# Altium footprint library IntegratedCircuites.PcbLib: 74 footprints (part 1 of 5)
Each footprint in its own frame and in the unit in brackets; x right, y up, seen from the top. Pads: shape width x height; smd on the part's side, far side on the other; paste and mask are expansions set on the pad; w line width, h text height; cw(c..) or ccw(c..) is an arc to the next point about the centre after c.
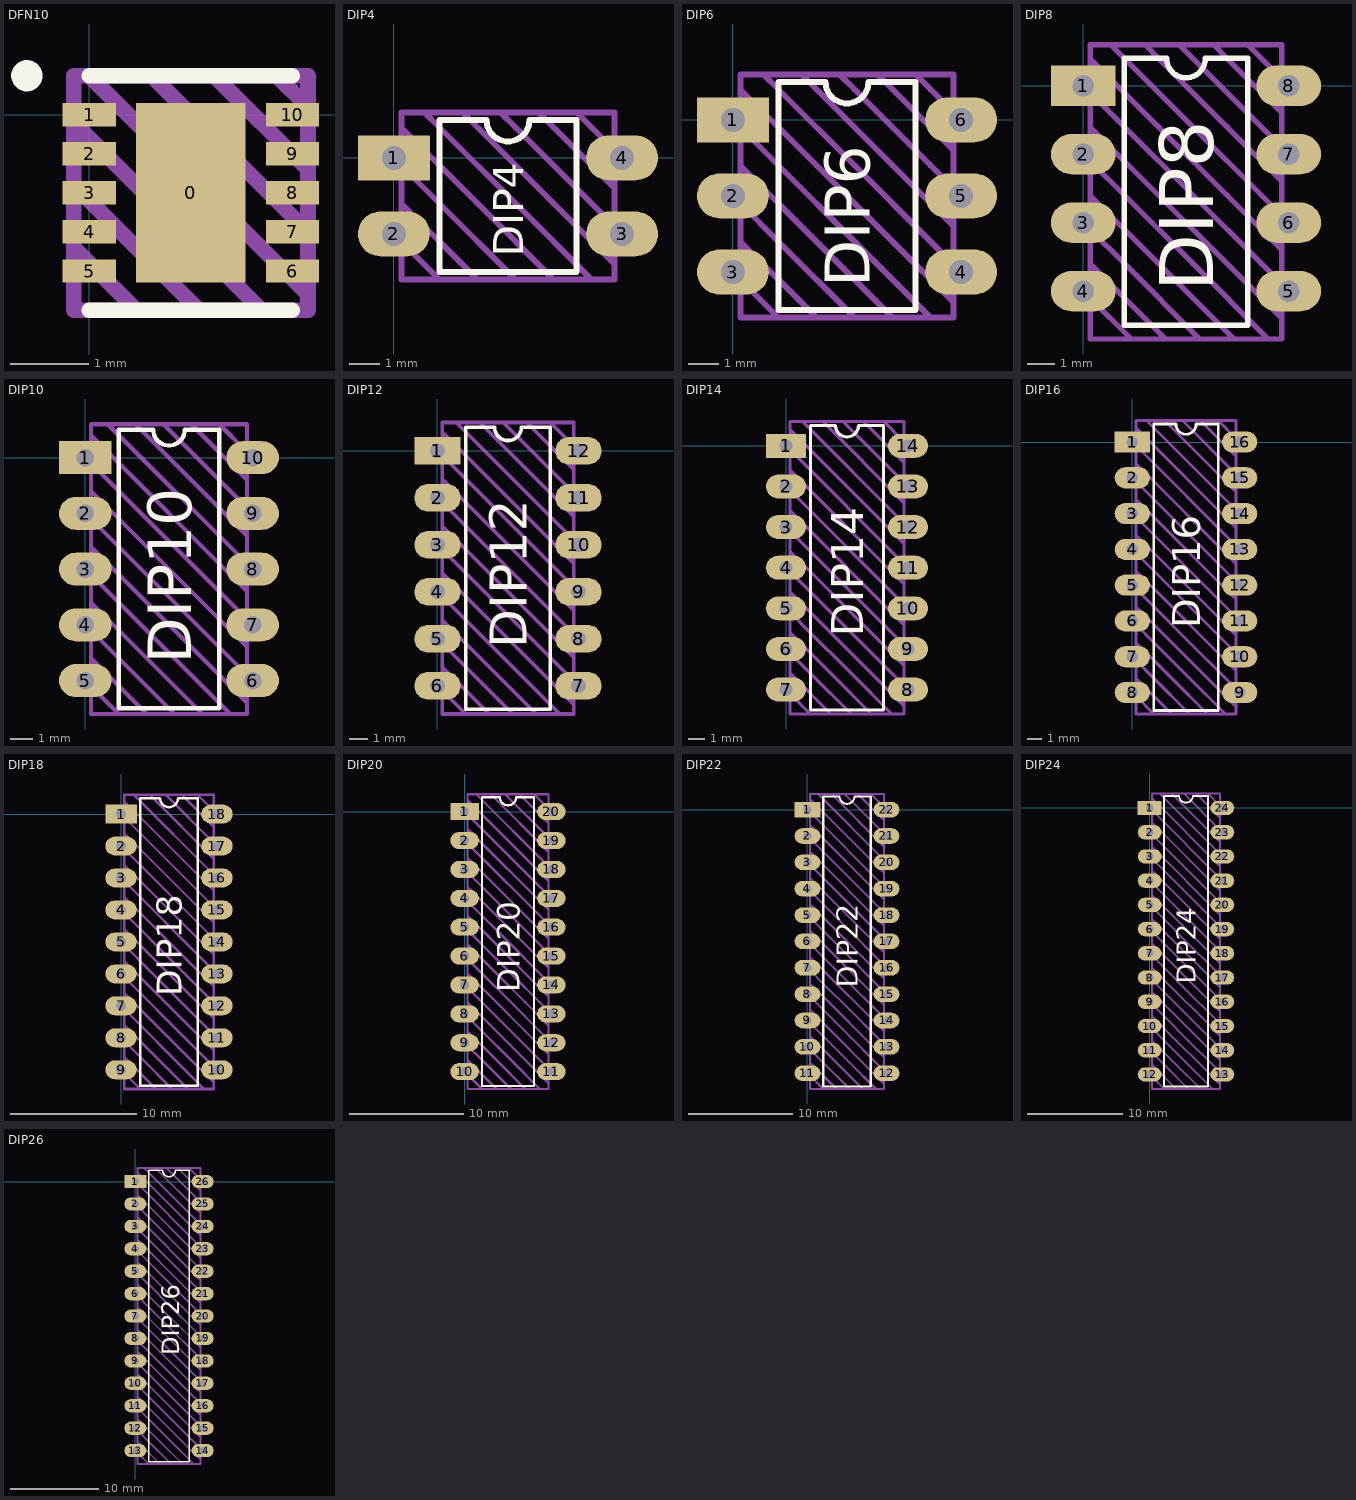
[diagram p0: the footprints below, top view; thin cyan lines are the x and y axes]

## DFN10 [mm]
pads (11):
  rect 1.4x2.3 smd: 0(1.3,-1)
  rect 0.68x0.3 smd: 1(0,0) 2(0,-0.5) 3(0,-1) 4(0,-1.5) 5(0,-2) 6(2.6,-2) 7(2.6,-1.5) 8(2.6,-1) 9(2.6,-0.5) 10(2.6,0)
Top Overlay:
  circle w0.2: c-0.8,0.5 r0.1
  lines w0.2: 0,-2.5 2.6,-2.5 ; 0,0.5 2.6,0.5
Top Draw:
  lines w0.2: -0.2,-1.7 0.6,-2.5 ; -0.2,-0.9 1.4,-2.5 ; -0.2,-0.1 2.2,-2.5 ; 0,0.5 2.8,-2.3 ; 0.8,0.5 2.8,-1.5 ; 1.6,0.5 2.8,-0.7 ; 2.4,0.5 2.8,0.1 ; -0.2,-2.5 2.8,-2.5 2.8,0.5 -0.2,0.5 -0.2,-2.5
Top Info:
  text "'.Comment'" at -0.824,-3.292 h0.5
3D body "PSON50P300X100_HS-11N.step": height 1, standoff 0, extent -0.201,-2.5 2.801,0.5

## DIP4 [mm]
pads (4):
  rect 2.4x1.5 hole 0.8: 1(0,0)
  oval 2.4x1.5 hole 0.8: 2(0,-2.54) 3(7.62,-2.54) 4(7.62,0)
Top Overlay:
  lines w0.2: 3.048,1.27 1.524,1.27 1.524,-3.81 6.096,-3.81 6.096,1.27 4.572,1.27 ; 3.092,1.27 ccw(c3.81,1.27) 4.528,1.27
  text "DIP4" at 4.318,-3.302 h1
Top Draw:
  lines w0.2: 0.254,-2.794 1.524,-4.064 ; 0.254,-1.524 2.794,-4.064 ; 0.254,-0.254 1.524,-1.524 4.064,-4.064 ; 0.254,1.016 2.794,-1.524 5.334,-4.064 ; 3.556,1.524 4.064,1.016 6.604,-1.524 7.366,-2.286 ; 4.826,1.524 5.334,1.016 7.366,-1.016 ; 6.096,1.524 6.604,1.016 7.366,0.254 ; 6.604,-4.064 4.064,-1.524 1.524,1.016 1.016,1.524 2.286,1.524 2.794,1.016 5.334,-1.524 7.366,-3.556 ; 0.254,-4.064 7.366,-4.064 7.366,1.524 0.254,1.524 0.254,-4.064
Top Info:
  text "'.Comment'" at -0.381,-5.461 h1
3D body: height 0.38, standoff -3, extent 7.493,-0.254 7.747,0.254
3D body: height 2.09, standoff 0.31, extent 7.112,-0.5 7.747,0.5
3D body: height 0.38, standoff -3, extent 7.493,-2.794 7.747,-2.286
3D body: height 2.09, standoff 0.31, extent 7.112,-3.04 7.747,-2.04
3D body: height 0.38, standoff -3, extent -0.127,-2.794 0.127,-2.286
3D body: height 2.09, standoff 0.31, extent -0.127,-3.04 0.508,-2.04
3D body: height 0.38, standoff -3, extent -0.127,-0.254 0.127,0.254
3D body: height 2.09, standoff 0.31, extent -0.127,-0.5 0.508,0.5
3D body: height 3, standoff 2, extent 0.508,-3.81 7.112,1.27
3D body: height 2, standoff 0.25, extent 0.508,-3.81 7.112,1.27

## DIP6 [mm]
pads (6):
  rect 2.4x1.5 hole 0.8: 1(0,0)
  oval 2.4x1.5 hole 0.8: 2(0,-2.54) 3(0,-5.08) 4(7.62,-5.08) 5(7.62,-2.54) 6(7.62,0)
Top Overlay:
  lines w0.2: 3.048,1.27 1.524,1.27 1.524,-6.35 6.096,-6.35 6.096,1.27 4.572,1.27 ; 3.092,1.27 ccw(c3.81,1.27) 4.528,1.27
  text "DIP6" at 4.572,-5.588 h1.5
Top Draw:
  lines w0.2: 0.254,-5.334 1.524,-6.604 ; 0.254,-4.064 2.794,-6.604 ; 0.254,-2.794 1.524,-4.064 4.064,-6.604 ; 0.254,-1.524 2.794,-4.064 5.334,-6.604 ; 0.254,-0.254 1.524,-1.524 4.064,-4.064 6.604,-6.604 ; 0.254,1.016 2.794,-1.524 5.334,-4.064 7.366,-6.096 ; 3.556,1.524 4.064,1.016 6.604,-1.524 7.366,-2.286 ; 4.826,1.524 5.334,1.016 7.366,-1.016 ; 6.096,1.524 6.604,1.016 7.366,0.254 ; 7.366,-4.826 6.604,-4.064 4.064,-1.524 1.524,1.016 1.016,1.524 2.286,1.524 2.794,1.016 5.334,-1.524 7.366,-3.556 ; 0.254,-6.604 0.254,1.524 7.366,1.524 7.366,-6.604 0.254,-6.604
Top Info:
  text "'.Comment'" at -0.381,-8.001 h1
3D body: height 2, standoff 0.25, extent 0.508,-6.35 7.112,1.27
3D body: height 3, standoff 2, extent 0.508,-6.35 7.112,1.27
3D body: height 2.09, standoff 0.31, extent -0.127,-0.5 0.508,0.5
3D body: height 0.38, standoff -3, extent -0.127,-0.254 0.127,0.254
3D body: height 2.09, standoff 0.31, extent -0.127,-3.04 0.508,-2.04
3D body: height 0.38, standoff -3, extent -0.127,-2.794 0.127,-2.286
3D body: height 2.09, standoff 0.31, extent -0.127,-5.58 0.508,-4.58
3D body: height 0.38, standoff -3, extent -0.127,-5.334 0.127,-4.826
3D body: height 2.09, standoff 0.31, extent 7.112,-5.58 7.747,-4.58
3D body: height 0.38, standoff -3, extent 7.493,-5.334 7.747,-4.826
3D body: height 2.09, standoff 0.31, extent 7.112,-3.04 7.747,-2.04
3D body: height 0.38, standoff -3, extent 7.493,-2.794 7.747,-2.286
3D body: height 2.09, standoff 0.31, extent 7.112,-0.5 7.747,0.5
3D body: height 0.38, standoff -3, extent 7.493,-0.254 7.747,0.254

## DIP8 [mm]
pads (8):
  rect 2.4x1.5 hole 0.8: 1(0,0)
  oval 2.4x1.5 hole 0.8: 2(0,-2.54) 3(0,-5.08) 4(0,-7.62) 5(7.62,-7.62) 6(7.62,-5.08) 7(7.62,-2.54) 8(7.62,0)
Top Overlay:
  lines w0.2: 3.048,1.016 1.524,1.016 1.524,-8.89 6.096,-8.89 6.096,1.016 4.572,1.016 ; 3.092,1.016 ccw(c3.81,1.016) 4.528,1.016
  text "DIP8" at 4.826,-7.62 h2
Top Draw:
  lines w0.2: 0.254,-7.874 1.778,-9.398 ; 0.254,-6.604 3.048,-9.398 ; 0.254,-5.334 1.524,-6.604 4.318,-9.398 ; 0.254,-4.064 2.794,-6.604 5.588,-9.398 ; 0.254,-2.794 1.524,-4.064 4.064,-6.604 6.858,-9.398 ; 0.254,-1.524 2.794,-4.064 5.334,-6.604 7.366,-8.636 ; 0.254,-0.254 1.524,-1.524 4.064,-4.064 6.604,-6.604 7.366,-7.366 ; 0.254,1.016 2.794,-1.524 5.334,-4.064 7.366,-6.096 ; 1.016,1.524 1.524,1.016 4.064,-1.524 6.604,-4.064 7.366,-4.826 ; 2.286,1.524 2.794,1.016 5.334,-1.524 7.366,-3.556 ; 3.556,1.524 4.064,1.016 6.604,-1.524 7.366,-2.286 ; 4.826,1.524 5.334,1.016 7.366,-1.016 ; 6.096,1.524 6.604,1.016 7.366,0.254 ; 0.254,-9.398 7.366,-9.398 7.366,1.524 0.254,1.524 0.254,-9.398
Top Info:
  text "'.Comment'" at -0.381,-10.795 h1
3D body: height 2.09, standoff 0.31, extent -0.127,-5.58 0.508,-4.58
3D body: height 0.38, standoff -3, extent -0.127,-5.334 0.127,-4.826
3D body: height 2.09, standoff 0.31, extent -0.127,-8.12 0.508,-7.12
3D body: height 0.38, standoff -3, extent -0.127,-7.874 0.127,-7.366
3D body: height 2.09, standoff 0.31, extent 7.112,-8.12 7.747,-7.12
3D body: height 0.38, standoff -3, extent 7.493,-7.874 7.747,-7.366
3D body: height 2.09, standoff 0.31, extent 7.112,-5.58 7.747,-4.58
3D body: height 0.38, standoff -3, extent 7.493,-5.334 7.747,-4.826
3D body: height 2.09, standoff 0.31, extent -0.127,-0.5 0.508,0.5
3D body: height 0.38, standoff -3, extent -0.127,-0.254 0.127,0.254
3D body: height 2.09, standoff 0.31, extent -0.127,-3.04 0.508,-2.04
3D body: height 0.38, standoff -3, extent -0.127,-2.794 0.127,-2.286
3D body: height 2.09, standoff 0.31, extent 7.112,-3.04 7.747,-2.04
3D body: height 0.38, standoff -3, extent 7.493,-2.794 7.747,-2.286
3D body: height 2.09, standoff 0.31, extent 7.112,-0.5 7.747,0.5
3D body: height 0.38, standoff -3, extent 7.493,-0.254 7.747,0.254
3D body: height 3, standoff 2, extent 0.508,-8.89 7.112,1.27
3D body: height 2.03, standoff 0.25, extent 0.508,-8.89 7.112,1.27

## DIP10 [mm]
pads (10):
  rect 2.4x1.5 hole 0.8: 1(0,0)
  oval 2.4x1.5 hole 0.8: 2(0,-2.54) 3(0,-5.08) 4(0,-7.62) 5(0,-10.16) 6(7.62,-10.16) 7(7.62,-7.62) 8(7.62,-5.08) 9(7.62,-2.54) 10(7.62,0)
Top Overlay:
  lines w0.2: 3.048,1.27 1.524,1.27 1.524,-11.43 6.096,-11.43 6.096,1.27 4.572,1.27 ; 3.092,1.27 ccw(c3.81,1.27) 4.528,1.27
  text "DIP10" at 4.826,-9.398 h2
Top Draw:
  lines w0.2: 0.254,-10.414 1.524,-11.684 ; 0.254,-9.144 2.794,-11.684 ; 0.254,-7.874 4.064,-11.684 ; 0.254,-6.604 5.334,-11.684 ; 0.254,-5.334 6.604,-11.684 ; 0.254,-4.064 7.366,-11.176 ; 0.254,-2.794 7.366,-9.906 ; 0.254,-1.524 7.366,-8.636 7.366,-7.366 0.254,-0.254 0.254,1.016 7.366,-6.096 7.366,-4.826 1.016,1.524 2.286,1.524 7.366,-3.556 7.366,-2.286 3.556,1.524 4.826,1.524 7.366,-1.016 7.366,0.254 6.096,1.524 ; 0.254,-11.684 0.254,1.524 7.366,1.524 7.366,-11.684 0.254,-11.684
Top Info:
  text "'.Comment'" at -0.381,-13.081 h1
3D body: height 2.03, standoff 0.25, extent 0.508,-11.43 7.112,1.27
3D body: height 3, standoff 2, extent 0.508,-11.43 7.112,1.27
3D body: height 0.38, standoff -3, extent 7.493,-0.254 7.747,0.254
3D body: height 2.09, standoff 0.31, extent 7.112,-0.5 7.747,0.5
3D body: height 0.38, standoff -3, extent 7.493,-2.794 7.747,-2.286
3D body: height 2.09, standoff 0.31, extent 7.112,-3.04 7.747,-2.04
3D body: height 0.38, standoff -3, extent -0.127,-2.794 0.127,-2.286
3D body: height 2.09, standoff 0.31, extent -0.127,-3.04 0.508,-2.04
3D body: height 0.38, standoff -3, extent -0.127,-0.254 0.127,0.254
3D body: height 2.09, standoff 0.31, extent -0.127,-0.5 0.508,0.5
3D body: height 0.38, standoff -3, extent 7.493,-5.334 7.747,-4.826
3D body: height 2.09, standoff 0.31, extent 7.112,-5.58 7.747,-4.58
3D body: height 0.38, standoff -3, extent 7.493,-7.874 7.747,-7.366
3D body: height 2.09, standoff 0.31, extent 7.112,-8.12 7.747,-7.12
3D body: height 0.38, standoff -3, extent -0.127,-7.874 0.127,-7.366
3D body: height 2.09, standoff 0.31, extent -0.127,-8.12 0.508,-7.12
3D body: height 0.38, standoff -3, extent -0.127,-5.334 0.127,-4.826
3D body: height 2.09, standoff 0.31, extent -0.127,-5.58 0.508,-4.58
3D body: height 0.38, standoff -3, extent 7.493,-10.414 7.747,-9.906
3D body: height 2.09, standoff 0.31, extent 7.112,-10.66 7.747,-9.66
3D body: height 0.38, standoff -3, extent -0.127,-10.414 0.127,-9.906
3D body: height 2.09, standoff 0.31, extent -0.127,-10.66 0.508,-9.66

## DIP12 [mm]
pads (12):
  rect 2.5x1.5 hole 0.8: 1(0,0)
  oval 2.5x1.5 hole 0.8: 2(0,-2.54) 3(0,-5.08) 4(0,-7.62) 5(0,-10.16) 6(0,-12.7) 7(7.62,-12.7) 8(7.62,-10.16) 9(7.62,-7.62) 10(7.62,-5.08) 11(7.62,-2.54) 12(7.62,0)
Top Overlay:
  lines w0.2: 3.048,1.27 1.524,1.27 1.524,-13.97 6.096,-13.97 6.096,1.27 4.572,1.27 ; 3.092,1.27 ccw(c3.81,1.27) 4.528,1.27
  text "DIP12" at 4.826,-10.668 h2
Top Draw:
  lines w0.2: 0.254,-12.954 1.524,-14.224 ; 0.254,-11.684 2.794,-14.224 4.064,-14.224 ; 0.254,-10.414 1.524,-11.684 ; 0.254,-9.144 2.794,-11.684 ; 0.254,-7.874 4.064,-11.684 6.604,-14.224 5.334,-14.224 ; 0.254,-6.604 5.334,-11.684 7.366,-13.716 ; 0.254,-5.334 6.604,-11.684 7.366,-12.446 ; 0.254,-4.064 7.366,-11.176 ; 0.254,-2.794 7.366,-9.906 ; 0.254,-1.524 7.366,-8.636 ; 0.254,-0.254 7.366,-7.366 ; 0.254,1.016 7.366,-6.096 ; 1.016,1.524 7.366,-4.826 ; 2.286,1.524 7.366,-3.556 ; 3.556,1.524 7.366,-2.286 ; 4.826,1.524 7.366,-1.016 ; 6.096,1.524 7.366,0.254 ; 2.794,-11.684 5.334,-14.224 ; 2.794,-11.684 5.334,-14.224 ; 4.064,-14.224 5.334,-14.224 ; 4.064,-14.224 1.27,-11.43 4.064,-14.224 ; 0.254,-14.224 0.254,1.524 7.366,1.524 7.366,-14.224 0.254,-14.224
Top Info:
  text "'.Comment'" at -0.381,-15.621 h1
3D body: height 2.03, standoff 0.25, extent 0.508,-13.97 7.112,1.27
3D body: height 3, standoff 2, extent 0.508,-13.97 7.112,1.27
3D body: height 0.38, standoff -3, extent 7.493,-0.254 7.747,0.254
3D body: height 2.09, standoff 0.31, extent 7.112,-0.5 7.747,0.5
3D body: height 0.38, standoff -3, extent 7.493,-2.794 7.747,-2.286
3D body: height 2.09, standoff 0.31, extent 7.112,-3.04 7.747,-2.04
3D body: height 0.38, standoff -3, extent -0.127,-2.794 0.127,-2.286
3D body: height 2.09, standoff 0.31, extent -0.127,-3.04 0.508,-2.04
3D body: height 0.38, standoff -3, extent -0.127,-0.254 0.127,0.254
3D body: height 2.09, standoff 0.31, extent -0.127,-0.5 0.508,0.5
3D body: height 0.38, standoff -3, extent 7.493,-5.334 7.747,-4.826
3D body: height 2.09, standoff 0.31, extent 7.112,-5.58 7.747,-4.58
3D body: height 0.38, standoff -3, extent 7.493,-7.874 7.747,-7.366
3D body: height 2.09, standoff 0.31, extent 7.112,-8.12 7.747,-7.12
3D body: height 0.38, standoff -3, extent -0.127,-7.874 0.127,-7.366
3D body: height 2.09, standoff 0.31, extent -0.127,-8.12 0.508,-7.12
3D body: height 0.38, standoff -3, extent -0.127,-5.334 0.127,-4.826
3D body: height 2.09, standoff 0.31, extent -0.127,-5.58 0.508,-4.58
3D body: height 0.38, standoff -3, extent 7.493,-10.414 7.747,-9.906
3D body: height 2.09, standoff 0.31, extent 7.112,-10.66 7.747,-9.66
3D body: height 0.38, standoff -3, extent 7.493,-12.954 7.747,-12.446
3D body: height 2.09, standoff 0.31, extent 7.112,-13.2 7.747,-12.2
3D body: height 0.38, standoff -3, extent -0.127,-12.954 0.127,-12.446
3D body: height 2.09, standoff 0.31, extent -0.127,-13.2 0.508,-12.2
3D body: height 0.38, standoff -3, extent -0.127,-10.414 0.127,-9.906
3D body: height 2.09, standoff 0.31, extent -0.127,-10.66 0.508,-9.66

## DIP14 [mm]
pads (14):
  rect 2.5x1.5 hole 0.8: 1(0,0)
  oval 2.5x1.5 hole 0.8: 2(0,-2.54) 3(0,-5.08) 4(0,-7.62) 5(0,-10.16) 6(0,-12.7) 7(0,-15.24) 8(7.62,-15.24) 9(7.62,-12.7) 10(7.62,-10.16) 11(7.62,-7.62) 12(7.62,-5.08) 13(7.62,-2.54) 14(7.62,0)
Top Overlay:
  lines w0.2: 3.048,1.27 1.524,1.27 1.524,-16.51 6.096,-16.51 6.096,1.27 4.572,1.27 ; 3.092,1.27 ccw(c3.81,1.27) 4.528,1.27
  text "DIP14" at 4.826,-11.938 h2
Top Draw:
  lines w0.2: 0.254,-15.494 1.524,-16.764 ; 0.254,-14.224 2.794,-16.764 ; 0.254,-12.954 1.524,-14.224 4.064,-16.764 ; 0.254,-11.684 2.794,-14.224 5.334,-16.764 ; 0.254,-10.414 1.524,-11.684 ; 0.254,-9.144 2.794,-11.684 ; 0.254,-7.874 4.064,-11.684 6.604,-14.224 7.366,-14.986 ; 0.254,-6.604 5.334,-11.684 7.366,-13.716 ; 0.254,-5.334 6.604,-11.684 7.366,-12.446 ; 0.254,-4.064 7.366,-11.176 ; 0.254,-2.794 7.366,-9.906 ; 0.254,-1.524 7.366,-8.636 ; 0.254,-0.254 7.366,-7.366 ; 0.254,1.016 7.366,-6.096 ; 1.016,1.524 7.366,-4.826 ; 2.286,1.524 7.366,-3.556 ; 3.556,1.524 7.366,-2.286 ; 4.826,1.524 7.366,-1.016 ; 6.096,1.524 7.366,0.254 ; 6.604,-16.764 4.064,-14.224 ; 7.366,-16.256 5.334,-14.224 ; 2.794,-11.684 5.334,-14.224 ; 2.794,-11.684 5.334,-14.224 ; 4.064,-14.224 1.27,-11.43 4.064,-14.224 ; 0.254,-16.764 7.366,-16.764 7.366,1.524 0.254,1.524 0.254,-16.764
Top Info:
  text "'.Comment'" at -0.381,-18.161 h1
3D body: height 2.09, standoff 0.31, extent -0.127,-15.74 0.508,-14.74
3D body: height 0.38, standoff -3, extent -0.127,-15.494 0.127,-14.986
3D body: height 2.09, standoff 0.31, extent 7.112,-15.74 7.747,-14.74
3D body: height 0.38, standoff -3, extent 7.493,-15.494 7.747,-14.986
3D body: height 2.09, standoff 0.31, extent -0.127,-10.66 0.508,-9.66
3D body: height 0.38, standoff -3, extent -0.127,-10.414 0.127,-9.906
3D body: height 2.09, standoff 0.31, extent -0.127,-13.2 0.508,-12.2
3D body: height 0.38, standoff -3, extent -0.127,-12.954 0.127,-12.446
3D body: height 2.09, standoff 0.31, extent 7.112,-13.2 7.747,-12.2
3D body: height 0.38, standoff -3, extent 7.493,-12.954 7.747,-12.446
3D body: height 2.09, standoff 0.31, extent 7.112,-10.66 7.747,-9.66
3D body: height 0.38, standoff -3, extent 7.493,-10.414 7.747,-9.906
3D body: height 2.09, standoff 0.31, extent -0.127,-5.58 0.508,-4.58
3D body: height 0.38, standoff -3, extent -0.127,-5.334 0.127,-4.826
3D body: height 2.09, standoff 0.31, extent -0.127,-8.12 0.508,-7.12
3D body: height 0.38, standoff -3, extent -0.127,-7.874 0.127,-7.366
3D body: height 2.09, standoff 0.31, extent 7.112,-8.12 7.747,-7.12
3D body: height 0.38, standoff -3, extent 7.493,-7.874 7.747,-7.366
3D body: height 2.09, standoff 0.31, extent 7.112,-5.58 7.747,-4.58
3D body: height 0.38, standoff -3, extent 7.493,-5.334 7.747,-4.826
3D body: height 2.09, standoff 0.31, extent -0.127,-0.5 0.508,0.5
3D body: height 0.38, standoff -3, extent -0.127,-0.254 0.127,0.254
3D body: height 2.09, standoff 0.31, extent -0.127,-3.04 0.508,-2.04
3D body: height 0.38, standoff -3, extent -0.127,-2.794 0.127,-2.286
3D body: height 2.09, standoff 0.31, extent 7.112,-3.04 7.747,-2.04
3D body: height 0.38, standoff -3, extent 7.493,-2.794 7.747,-2.286
3D body: height 2.09, standoff 0.31, extent 7.112,-0.5 7.747,0.5
3D body: height 0.38, standoff -3, extent 7.493,-0.254 7.747,0.254
3D body: height 3, standoff 2, extent 0.508,-16.51 7.112,1.27
3D body: height 2.03, standoff 0.25, extent 0.508,-16.51 7.112,1.27

## DIP16 [mm]
pads (16):
  rect 2.5x1.5 hole 0.8: 1(0,0)
  oval 2.5x1.5 hole 0.8: 2(0,-2.54) 3(0,-5.08) 4(0,-7.62) 5(0,-10.16) 6(0,-12.7) 7(0,-15.24) 8(0,-17.78) 9(7.62,-17.78) 10(7.62,-15.24) 11(7.62,-12.7) 12(7.62,-10.16) 13(7.62,-7.62) 14(7.62,-5.08) 15(7.62,-2.54) 16(7.62,0)
Top Overlay:
  lines w0.2: 3.048,1.27 1.524,1.27 1.524,-19.05 6.096,-19.05 6.096,1.27 5.588,1.27 4.572,1.27 ; 3.092,1.27 ccw(c3.81,1.27) 4.528,1.27
  text "DIP16" at 4.826,-13.208 h2
Top Draw:
  lines w0.2: 0.254,-18.034 1.524,-19.304 ; 0.254,-16.764 2.794,-19.304 ; 0.254,-15.494 1.524,-16.764 4.064,-19.304 ; 0.254,-14.224 2.794,-16.764 5.334,-19.304 ; 0.254,-12.954 1.524,-14.224 4.064,-16.764 6.604,-19.304 ; 0.254,-11.684 2.794,-14.224 5.334,-16.764 7.366,-18.796 ; 0.254,-10.414 1.524,-11.684 ; 0.254,-9.144 2.794,-11.684 ; 0.254,-7.874 4.064,-11.684 6.604,-14.224 7.366,-14.986 ; 0.254,-6.604 5.334,-11.684 7.366,-13.716 ; 0.254,-5.334 6.604,-11.684 7.366,-12.446 ; 0.254,-4.064 7.366,-11.176 ; 0.254,-2.794 7.366,-9.906 ; 0.254,-1.524 7.366,-8.636 ; 0.254,-0.254 7.366,-7.366 ; 0.254,1.016 7.366,-6.096 ; 1.016,1.524 7.366,-4.826 ; 2.286,1.524 7.366,-3.556 ; 3.556,1.524 7.366,-2.286 ; 4.826,1.524 7.366,-1.016 ; 6.096,1.524 7.366,0.254 ; 7.366,-17.526 6.604,-16.764 4.064,-14.224 ; 7.366,-16.256 5.334,-14.224 ; 2.794,-11.684 5.334,-14.224 ; 2.794,-11.684 5.334,-14.224 ; 4.064,-14.224 1.27,-11.43 4.064,-14.224 ; 0.254,-19.304 0.254,1.524 7.366,1.524 7.366,-19.304 0.254,-19.304
Top Info:
  text "'.Comment'" at -0.381,-20.701 h1
3D body: height 3, standoff 2, extent 0.508,-19.05 7.112,1.27
3D body: height 2.03, standoff 0.25, extent 0.508,-19.05 7.112,1.27
3D body: height 0.38, standoff -3, extent 7.493,-0.254 7.747,0.254
3D body: height 2.09, standoff 0.31, extent 7.112,-0.5 7.747,0.5
3D body: height 0.38, standoff -3, extent 7.493,-2.794 7.747,-2.286
3D body: height 2.09, standoff 0.31, extent 7.112,-3.04 7.747,-2.04
3D body: height 0.38, standoff -3, extent -0.127,-2.794 0.127,-2.286
3D body: height 2.09, standoff 0.31, extent -0.127,-3.04 0.508,-2.04
3D body: height 0.38, standoff -3, extent -0.127,-0.254 0.127,0.254
3D body: height 2.09, standoff 0.31, extent -0.127,-0.5 0.508,0.5
3D body: height 0.38, standoff -3, extent 7.493,-5.334 7.747,-4.826
3D body: height 2.09, standoff 0.31, extent 7.112,-5.58 7.747,-4.58
3D body: height 0.38, standoff -3, extent 7.493,-7.874 7.747,-7.366
3D body: height 2.09, standoff 0.31, extent 7.112,-8.12 7.747,-7.12
3D body: height 0.38, standoff -3, extent -0.127,-7.874 0.127,-7.366
3D body: height 2.09, standoff 0.31, extent -0.127,-8.12 0.508,-7.12
3D body: height 0.38, standoff -3, extent -0.127,-5.334 0.127,-4.826
3D body: height 2.09, standoff 0.31, extent -0.127,-5.58 0.508,-4.58
3D body: height 0.38, standoff -3, extent 7.493,-10.414 7.747,-9.906
3D body: height 2.09, standoff 0.31, extent 7.112,-10.66 7.747,-9.66
3D body: height 0.38, standoff -3, extent 7.493,-12.954 7.747,-12.446
3D body: height 2.09, standoff 0.31, extent 7.112,-13.2 7.747,-12.2
3D body: height 0.38, standoff -3, extent -0.127,-12.954 0.127,-12.446
3D body: height 2.09, standoff 0.31, extent -0.127,-13.2 0.508,-12.2
3D body: height 0.38, standoff -3, extent -0.127,-10.414 0.127,-9.906
3D body: height 2.09, standoff 0.31, extent -0.127,-10.66 0.508,-9.66
3D body: height 0.38, standoff -3, extent 7.493,-15.494 7.747,-14.986
3D body: height 2.09, standoff 0.31, extent 7.112,-15.74 7.747,-14.74
3D body: height 0.38, standoff -3, extent 7.493,-18.034 7.747,-17.526
3D body: height 2.09, standoff 0.31, extent 7.112,-18.28 7.747,-17.28
3D body: height 0.38, standoff -3, extent -0.127,-18.034 0.127,-17.526
3D body: height 2.09, standoff 0.31, extent -0.127,-18.28 0.508,-17.28
3D body: height 0.38, standoff -3, extent -0.127,-15.494 0.127,-14.986
3D body: height 2.09, standoff 0.31, extent -0.127,-15.74 0.508,-14.74

## DIP18 [mm]
pads (18):
  rect 2.5x1.5 hole 0.8: 1(0,0)
  oval 2.5x1.5 hole 0.8: 2(0,-2.54) 3(0,-5.08) 4(0,-7.62) 5(0,-10.16) 6(0,-12.7) 7(0,-15.24) 8(0,-17.78) 9(0,-20.32) 10(7.62,-20.32) 11(7.62,-17.78) 12(7.62,-15.24) 13(7.62,-12.7) 14(7.62,-10.16) 15(7.62,-7.62) 16(7.62,-5.08) 17(7.62,-2.54) 18(7.62,0)
Top Overlay:
  lines w0.2: 3.048,1.27 1.524,1.27 1.524,-21.59 6.096,-21.59 6.096,1.27 4.572,1.27 ; 3.092,1.27 ccw(c3.81,1.27) 4.528,1.27
  text "DIP18" at 4.826,-14.478 h2
Top Draw:
  lines w0.2: 0.254,-20.574 1.524,-21.844 ; 0.254,-19.304 2.794,-21.844 ; 0.254,-18.034 1.524,-19.304 4.064,-21.844 ; 0.254,-16.764 2.794,-19.304 5.334,-21.844 ; 0.254,-15.494 1.524,-16.764 4.064,-19.304 6.604,-21.844 ; 0.254,-14.224 2.794,-16.764 5.334,-19.304 7.366,-21.336 ; 0.254,-12.954 1.524,-14.224 4.064,-16.764 6.604,-19.304 7.366,-20.066 ; 0.254,-11.684 2.794,-14.224 5.334,-16.764 7.366,-18.796 ; 0.254,-10.414 1.524,-11.684 ; 0.254,-9.144 2.794,-11.684 ; 0.254,-7.874 4.064,-11.684 6.604,-14.224 7.366,-14.986 ; 0.254,-6.604 5.334,-11.684 7.366,-13.716 ; 0.254,-5.334 6.604,-11.684 7.366,-12.446 ; 0.254,-4.064 7.366,-11.176 ; 0.254,-2.794 7.366,-9.906 ; 0.254,-1.524 7.366,-8.636 ; 0.254,-0.254 7.366,-7.366 ; 0.254,1.016 7.366,-6.096 ; 1.016,1.524 7.366,-4.826 ; 2.286,1.524 7.366,-3.556 ; 3.556,1.524 7.366,-2.286 ; 4.826,1.524 7.366,-1.016 ; 6.096,1.524 7.366,0.254 ; 7.366,-17.526 6.604,-16.764 4.064,-14.224 ; 7.366,-16.256 5.334,-14.224 ; 2.794,-11.684 5.334,-14.224 ; 2.794,-11.684 5.334,-14.224 ; 4.064,-14.224 1.27,-11.43 4.064,-14.224 ; 0.254,-21.844 7.366,-21.844 7.366,1.524 0.254,1.524 0.254,-21.844
Top Info:
  text "'.Comment'" at -0.381,-23.241 h1
3D body: height 2.09, standoff 0.31, extent -0.127,-20.82 0.508,-19.82
3D body: height 0.38, standoff -3, extent -0.127,-20.574 0.127,-20.066
3D body: height 2.09, standoff 0.31, extent 7.112,-20.82 7.747,-19.82
3D body: height 0.38, standoff -3, extent 7.493,-20.574 7.747,-20.066
3D body: height 2.09, standoff 0.31, extent -0.127,-15.74 0.508,-14.74
3D body: height 0.38, standoff -3, extent -0.127,-15.494 0.127,-14.986
3D body: height 2.09, standoff 0.31, extent -0.127,-18.28 0.508,-17.28
3D body: height 0.38, standoff -3, extent -0.127,-18.034 0.127,-17.526
3D body: height 2.09, standoff 0.31, extent 7.112,-18.28 7.747,-17.28
3D body: height 0.38, standoff -3, extent 7.493,-18.034 7.747,-17.526
3D body: height 2.09, standoff 0.31, extent 7.112,-15.74 7.747,-14.74
3D body: height 0.38, standoff -3, extent 7.493,-15.494 7.747,-14.986
3D body: height 2.09, standoff 0.31, extent -0.127,-10.66 0.508,-9.66
3D body: height 0.38, standoff -3, extent -0.127,-10.414 0.127,-9.906
3D body: height 2.09, standoff 0.31, extent -0.127,-13.2 0.508,-12.2
3D body: height 0.38, standoff -3, extent -0.127,-12.954 0.127,-12.446
3D body: height 2.09, standoff 0.31, extent 7.112,-13.2 7.747,-12.2
3D body: height 0.38, standoff -3, extent 7.493,-12.954 7.747,-12.446
3D body: height 2.09, standoff 0.31, extent 7.112,-10.66 7.747,-9.66
3D body: height 0.38, standoff -3, extent 7.493,-10.414 7.747,-9.906
3D body: height 2.09, standoff 0.31, extent -0.127,-5.58 0.508,-4.58
3D body: height 0.38, standoff -3, extent -0.127,-5.334 0.127,-4.826
3D body: height 2.09, standoff 0.31, extent -0.127,-8.12 0.508,-7.12
3D body: height 0.38, standoff -3, extent -0.127,-7.874 0.127,-7.366
3D body: height 2.09, standoff 0.31, extent 7.112,-8.12 7.747,-7.12
3D body: height 0.38, standoff -3, extent 7.493,-7.874 7.747,-7.366
3D body: height 2.09, standoff 0.31, extent 7.112,-5.58 7.747,-4.58
3D body: height 0.38, standoff -3, extent 7.493,-5.334 7.747,-4.826
3D body: height 2.09, standoff 0.31, extent -0.127,-0.5 0.508,0.5
3D body: height 0.38, standoff -3, extent -0.127,-0.254 0.127,0.254
3D body: height 2.09, standoff 0.31, extent -0.127,-3.04 0.508,-2.04
3D body: height 0.38, standoff -3, extent -0.127,-2.794 0.127,-2.286
3D body: height 2.09, standoff 0.31, extent 7.112,-3.04 7.747,-2.04
3D body: height 0.38, standoff -3, extent 7.493,-2.794 7.747,-2.286
3D body: height 2.09, standoff 0.31, extent 7.112,-0.5 7.747,0.5
3D body: height 0.38, standoff -3, extent 7.493,-0.254 7.747,0.254
3D body: height 3, standoff 2, extent 0.508,-21.59 7.112,1.27
3D body: height 2.03, standoff 0.25, extent 0.508,-21.59 7.112,1.27

## DIP20 [mm]
pads (20):
  rect 2.5x1.5 hole 0.8: 1(0,0)
  oval 2.5x1.5 hole 0.8: 2(0,-2.54) 3(0,-5.08) 4(0,-7.62) 5(0,-10.16) 6(0,-12.7) 7(0,-15.24) 8(0,-17.78) 9(0,-20.32) 10(0,-22.86) 11(7.62,-22.86) 12(7.62,-20.32) 13(7.62,-17.78) 14(7.62,-15.24) 15(7.62,-12.7) 16(7.62,-10.16) 17(7.62,-7.62) 18(7.62,-5.08) 19(7.62,-2.54) 20(7.62,0)
Top Overlay:
  lines w0.2: 3.048,1.27 1.524,1.27 1.524,-24.13 6.096,-24.13 6.096,1.27 4.572,1.27 ; 3.092,1.27 ccw(c3.81,1.27) 4.528,1.27
  text "DIP20" at 4.826,-15.875 h2
Top Draw:
  lines w0.2: 0.254,-23.114 1.524,-24.384 ; 0.254,-21.844 2.794,-24.384 ; 0.254,-20.574 1.524,-21.844 4.064,-24.384 ; 0.254,-19.304 2.794,-21.844 5.334,-24.384 ; 0.254,-18.034 1.524,-19.304 4.064,-21.844 6.604,-24.384 ; 0.254,-16.764 2.794,-19.304 5.334,-21.844 7.366,-23.876 ; 0.254,-15.494 1.524,-16.764 4.064,-19.304 6.604,-21.844 7.366,-22.606 ; 0.254,-14.224 2.794,-16.764 5.334,-19.304 7.366,-21.336 ; 0.254,-12.954 1.524,-14.224 4.064,-16.764 6.604,-19.304 7.366,-20.066 ; 0.254,-11.684 2.794,-14.224 5.334,-16.764 7.366,-18.796 ; 0.254,-10.414 1.524,-11.684 ; 0.254,-9.144 2.794,-11.684 ; 0.254,-7.874 4.064,-11.684 6.604,-14.224 7.366,-14.986 ; 0.254,-6.604 5.334,-11.684 7.366,-13.716 ; 0.254,-5.334 6.604,-11.684 7.366,-12.446 ; 0.254,-4.064 7.366,-11.176 ; 0.254,-2.794 7.366,-9.906 ; 0.254,-1.524 7.366,-8.636 ; 0.254,-0.254 7.366,-7.366 ; 0.254,1.016 7.366,-6.096 ; 1.016,1.524 7.366,-4.826 ; 2.286,1.524 7.366,-3.556 ; 3.556,1.524 7.366,-2.286 ; 4.826,1.524 7.366,-1.016 ; 6.096,1.524 7.366,0.254 ; 7.366,-17.526 6.604,-16.764 4.064,-14.224 ; 7.366,-16.256 5.334,-14.224 ; 2.794,-11.684 5.334,-14.224 ; 2.794,-11.684 5.334,-14.224 ; 4.064,-14.224 1.27,-11.43 4.064,-14.224 ; 0.254,-24.384 7.366,-24.384 7.366,1.524 0.254,1.524 0.254,-24.384
Top Info:
  text "'.Comment'" at -0.381,-25.781 h1
3D body: height 0.38, standoff -3, extent 7.493,-20.574 7.747,-20.066
3D body: height 2.09, standoff 0.31, extent 7.112,-20.82 7.747,-19.82
3D body: height 0.38, standoff -3, extent 7.493,-23.114 7.747,-22.606
3D body: height 2.09, standoff 0.31, extent 7.112,-23.36 7.747,-22.36
3D body: height 0.38, standoff -3, extent -0.127,-23.114 0.127,-22.606
3D body: height 2.09, standoff 0.31, extent -0.127,-23.36 0.508,-22.36
3D body: height 0.38, standoff -3, extent -0.127,-20.574 0.127,-20.066
3D body: height 2.09, standoff 0.31, extent -0.127,-20.82 0.508,-19.82
3D body: height 0.38, standoff -3, extent 7.493,-10.414 7.747,-9.906
3D body: height 2.09, standoff 0.31, extent 7.112,-10.66 7.747,-9.66
3D body: height 0.38, standoff -3, extent 7.493,-12.954 7.747,-12.446
3D body: height 2.09, standoff 0.31, extent 7.112,-13.2 7.747,-12.2
3D body: height 0.38, standoff -3, extent -0.127,-12.954 0.127,-12.446
3D body: height 2.09, standoff 0.31, extent -0.127,-13.2 0.508,-12.2
3D body: height 0.38, standoff -3, extent -0.127,-10.414 0.127,-9.906
3D body: height 2.09, standoff 0.31, extent -0.127,-10.66 0.508,-9.66
3D body: height 0.38, standoff -3, extent 7.493,-15.494 7.747,-14.986
3D body: height 2.09, standoff 0.31, extent 7.112,-15.74 7.747,-14.74
3D body: height 0.38, standoff -3, extent 7.493,-18.034 7.747,-17.526
3D body: height 2.09, standoff 0.31, extent 7.112,-18.28 7.747,-17.28
3D body: height 0.38, standoff -3, extent -0.127,-18.034 0.127,-17.526
3D body: height 2.09, standoff 0.31, extent -0.127,-18.28 0.508,-17.28
3D body: height 0.38, standoff -3, extent -0.127,-15.494 0.127,-14.986
3D body: height 2.09, standoff 0.31, extent -0.127,-15.74 0.508,-14.74
3D body: height 0.38, standoff -3, extent 7.493,-0.254 7.747,0.254
3D body: height 2.09, standoff 0.31, extent 7.112,-0.5 7.747,0.5
3D body: height 0.38, standoff -3, extent 7.493,-2.794 7.747,-2.286
3D body: height 2.09, standoff 0.31, extent 7.112,-3.04 7.747,-2.04
3D body: height 0.38, standoff -3, extent -0.127,-2.794 0.127,-2.286
3D body: height 2.09, standoff 0.31, extent -0.127,-3.04 0.508,-2.04
3D body: height 0.38, standoff -3, extent -0.127,-0.254 0.127,0.254
3D body: height 2.09, standoff 0.31, extent -0.127,-0.5 0.508,0.5
3D body: height 0.38, standoff -3, extent 7.493,-5.334 7.747,-4.826
3D body: height 2.09, standoff 0.31, extent 7.112,-5.58 7.747,-4.58
3D body: height 0.38, standoff -3, extent 7.493,-7.874 7.747,-7.366
3D body: height 2.09, standoff 0.31, extent 7.112,-8.12 7.747,-7.12
3D body: height 0.38, standoff -3, extent -0.127,-7.874 0.127,-7.366
3D body: height 2.09, standoff 0.31, extent -0.127,-8.12 0.508,-7.12
3D body: height 0.38, standoff -3, extent -0.127,-5.334 0.127,-4.826
3D body: height 2.09, standoff 0.31, extent -0.127,-5.58 0.508,-4.58
3D body: height 2.03, standoff 0.25, extent 0.508,-24.13 7.112,1.27
3D body: height 3, standoff 2, extent 0.508,-24.13 7.112,1.27

## DIP22 [mm]
pads (22):
  rect 2.5x1.5 hole 0.8: 1(0,0)
  oval 2.5x1.5 hole 0.8: 2(0,-2.54) 3(0,-5.08) 4(0,-7.62) 5(0,-10.16) 6(0,-12.7) 7(0,-15.24) 8(0,-17.78) 9(0,-20.32) 10(0,-22.86) 11(0,-25.4) 12(7.62,-25.4) 13(7.62,-22.86) 14(7.62,-20.32) 15(7.62,-17.78) 16(7.62,-15.24) 17(7.62,-12.7) 18(7.62,-10.16) 19(7.62,-7.62) 20(7.62,-5.08) 21(7.62,-2.54) 22(7.62,0)
Top Overlay:
  lines w0.2: 3.048,1.27 1.524,1.27 1.524,-26.67 6.096,-26.67 6.096,1.27 4.572,1.27 ; 3.092,1.27 ccw(c3.81,1.27) 4.528,1.27
  text "DIP22" at 4.826,-17.145 h2
Top Draw:
  lines w0.2: 0.254,-25.654 1.524,-26.924 ; 0.254,-24.384 2.794,-26.924 ; 0.254,-23.114 1.524,-24.384 4.064,-26.924 ; 0.254,-21.844 2.794,-24.384 5.334,-26.924 ; 0.254,-20.574 1.524,-21.844 4.064,-24.384 6.604,-26.924 ; 0.254,-19.304 2.794,-21.844 5.334,-24.384 7.366,-26.416 ; 0.254,-18.034 1.524,-19.304 4.064,-21.844 6.604,-24.384 7.366,-25.146 ; 0.254,-16.764 2.794,-19.304 5.334,-21.844 7.366,-23.876 ; 0.254,-15.494 1.524,-16.764 4.064,-19.304 6.604,-21.844 7.366,-22.606 ; 0.254,-14.224 2.794,-16.764 5.334,-19.304 7.366,-21.336 ; 0.254,-12.954 1.524,-14.224 4.064,-16.764 6.604,-19.304 7.366,-20.066 ; 0.254,-11.684 2.794,-14.224 5.334,-16.764 7.366,-18.796 ; 0.254,-10.414 1.524,-11.684 ; 0.254,-9.144 2.794,-11.684 ; 0.254,-7.874 4.064,-11.684 6.604,-14.224 7.366,-14.986 ; 0.254,-6.604 5.334,-11.684 7.366,-13.716 ; 0.254,-5.334 6.604,-11.684 7.366,-12.446 ; 0.254,-4.064 7.366,-11.176 ; 0.254,-2.794 7.366,-9.906 ; 0.254,-1.524 7.366,-8.636 ; 0.254,-0.254 7.366,-7.366 ; 0.254,1.016 7.366,-6.096 ; 1.016,1.524 7.366,-4.826 ; 2.286,1.524 7.366,-3.556 ; 3.556,1.524 7.366,-2.286 ; 4.826,1.524 7.366,-1.016 ; 6.096,1.524 7.366,0.254 ; 7.366,-17.526 6.604,-16.764 4.064,-14.224 ; 7.366,-16.256 5.334,-14.224 ; 2.794,-11.684 5.334,-14.224 ; 2.794,-11.684 5.334,-14.224 ; 4.064,-14.224 1.27,-11.43 4.064,-14.224 ; 0.254,-26.924 7.366,-26.924 7.366,1.524 0.254,1.524 0.254,-26.924
Top Info:
  text "'.Comment'" at -0.381,-28.321 h1
3D body: height 2.03, standoff 0.25, extent 0.508,-26.67 7.112,1.27
3D body: height 3, standoff 2, extent 0.508,-26.67 7.112,1.27
3D body: height 2.09, standoff 0.31, extent -0.127,-5.58 0.508,-4.58
3D body: height 0.38, standoff -3, extent -0.127,-5.334 0.127,-4.826
3D body: height 2.09, standoff 0.31, extent -0.127,-8.12 0.508,-7.12
3D body: height 0.38, standoff -3, extent -0.127,-7.874 0.127,-7.366
3D body: height 2.09, standoff 0.31, extent 7.112,-8.12 7.747,-7.12
3D body: height 0.38, standoff -3, extent 7.493,-7.874 7.747,-7.366
3D body: height 2.09, standoff 0.31, extent 7.112,-5.58 7.747,-4.58
3D body: height 0.38, standoff -3, extent 7.493,-5.334 7.747,-4.826
3D body: height 2.09, standoff 0.31, extent -0.127,-0.5 0.508,0.5
3D body: height 0.38, standoff -3, extent -0.127,-0.254 0.127,0.254
3D body: height 2.09, standoff 0.31, extent -0.127,-3.04 0.508,-2.04
3D body: height 0.38, standoff -3, extent -0.127,-2.794 0.127,-2.286
3D body: height 2.09, standoff 0.31, extent 7.112,-3.04 7.747,-2.04
3D body: height 0.38, standoff -3, extent 7.493,-2.794 7.747,-2.286
3D body: height 2.09, standoff 0.31, extent 7.112,-0.5 7.747,0.5
3D body: height 0.38, standoff -3, extent 7.493,-0.254 7.747,0.254
3D body: height 2.09, standoff 0.31, extent -0.127,-15.74 0.508,-14.74
3D body: height 0.38, standoff -3, extent -0.127,-15.494 0.127,-14.986
3D body: height 2.09, standoff 0.31, extent -0.127,-18.28 0.508,-17.28
3D body: height 0.38, standoff -3, extent -0.127,-18.034 0.127,-17.526
3D body: height 2.09, standoff 0.31, extent 7.112,-18.28 7.747,-17.28
3D body: height 0.38, standoff -3, extent 7.493,-18.034 7.747,-17.526
3D body: height 2.09, standoff 0.31, extent 7.112,-15.74 7.747,-14.74
3D body: height 0.38, standoff -3, extent 7.493,-15.494 7.747,-14.986
3D body: height 2.09, standoff 0.31, extent -0.127,-10.66 0.508,-9.66
3D body: height 0.38, standoff -3, extent -0.127,-10.414 0.127,-9.906
3D body: height 2.09, standoff 0.31, extent -0.127,-13.2 0.508,-12.2
3D body: height 0.38, standoff -3, extent -0.127,-12.954 0.127,-12.446
3D body: height 2.09, standoff 0.31, extent 7.112,-13.2 7.747,-12.2
3D body: height 0.38, standoff -3, extent 7.493,-12.954 7.747,-12.446
3D body: height 2.09, standoff 0.31, extent 7.112,-10.66 7.747,-9.66
3D body: height 0.38, standoff -3, extent 7.493,-10.414 7.747,-9.906
3D body: height 2.09, standoff 0.31, extent -0.127,-25.9 0.508,-24.9
3D body: height 0.38, standoff -3, extent -0.127,-25.654 0.127,-25.146
3D body: height 2.09, standoff 0.31, extent 7.112,-25.9 7.747,-24.9
3D body: height 0.38, standoff -3, extent 7.493,-25.654 7.747,-25.146
3D body: height 2.09, standoff 0.31, extent -0.127,-20.82 0.508,-19.82
3D body: height 0.38, standoff -3, extent -0.127,-20.574 0.127,-20.066
3D body: height 2.09, standoff 0.31, extent -0.127,-23.36 0.508,-22.36
3D body: height 0.38, standoff -3, extent -0.127,-23.114 0.127,-22.606
3D body: height 2.09, standoff 0.31, extent 7.112,-23.36 7.747,-22.36
3D body: height 0.38, standoff -3, extent 7.493,-23.114 7.747,-22.606
3D body: height 2.09, standoff 0.31, extent 7.112,-20.82 7.747,-19.82
3D body: height 0.38, standoff -3, extent 7.493,-20.574 7.747,-20.066

## DIP24 [mm]
pads (24):
  rect 2.5x1.5 hole 0.8: 1(0,0)
  oval 2.5x1.5 hole 0.8: 2(0,-2.54) 3(0,-5.08) 4(0,-7.62) 5(0,-10.16) 6(0,-12.7) 7(0,-15.24) 8(0,-17.78) 9(0,-20.32) 10(0,-22.86) 11(0,-25.4) 12(0,-27.94) 13(7.62,-27.94) 14(7.62,-25.4) 15(7.62,-22.86) 16(7.62,-20.32) 17(7.62,-17.78) 18(7.62,-15.24) 19(7.62,-12.7) 20(7.62,-10.16) 21(7.62,-7.62) 22(7.62,-5.08) 23(7.62,-2.54) 24(7.62,0)
Top Overlay:
  lines w0.2: 3.048,1.27 1.524,1.27 1.524,-29.21 6.096,-29.21 6.096,1.27 4.572,1.27 ; 3.092,1.27 ccw(c3.81,1.27) 4.528,1.27
  text "DIP24" at 4.826,-18.415 h2
Top Draw:
  lines w0.2: 0.254,-28.194 1.524,-29.464 ; 0.254,-26.924 2.794,-29.464 ; 0.254,-25.654 1.524,-26.924 4.064,-29.464 ; 0.254,-24.384 2.794,-26.924 5.334,-29.464 ; 0.254,-23.114 1.524,-24.384 4.064,-26.924 6.604,-29.464 ; 0.254,-21.844 2.794,-24.384 5.334,-26.924 7.366,-28.956 ; 0.254,-20.574 1.524,-21.844 4.064,-24.384 6.604,-26.924 7.366,-27.686 ; 0.254,-19.304 2.794,-21.844 5.334,-24.384 7.366,-26.416 ; 0.254,-18.034 1.524,-19.304 4.064,-21.844 6.604,-24.384 7.366,-25.146 ; 0.254,-16.764 2.794,-19.304 5.334,-21.844 7.366,-23.876 ; 0.254,-15.494 1.524,-16.764 4.064,-19.304 6.604,-21.844 7.366,-22.606 ; 0.254,-14.224 2.794,-16.764 5.334,-19.304 7.366,-21.336 ; 0.254,-12.954 1.524,-14.224 4.064,-16.764 6.604,-19.304 7.366,-20.066 ; 0.254,-11.684 2.794,-14.224 5.334,-16.764 7.366,-18.796 ; 0.254,-10.414 1.524,-11.684 ; 0.254,-9.144 2.794,-11.684 ; 0.254,-7.874 4.064,-11.684 6.604,-14.224 7.366,-14.986 ; 0.254,-6.604 5.334,-11.684 7.366,-13.716 ; 0.254,-5.334 6.604,-11.684 7.366,-12.446 ; 0.254,-4.064 7.366,-11.176 ; 0.254,-2.794 7.366,-9.906 ; 0.254,-1.524 7.366,-8.636 ; 0.254,-0.254 7.366,-7.366 ; 0.254,1.016 7.366,-6.096 ; 1.016,1.524 7.366,-4.826 ; 2.286,1.524 7.366,-3.556 ; 3.556,1.524 7.366,-2.286 ; 4.826,1.524 7.366,-1.016 ; 6.096,1.524 7.366,0.254 ; 7.366,-17.526 6.604,-16.764 4.064,-14.224 ; 7.366,-16.256 5.334,-14.224 ; 2.794,-11.684 5.334,-14.224 ; 2.794,-11.684 5.334,-14.224 ; 4.064,-14.224 1.27,-11.43 4.064,-14.224 ; 0.254,-29.464 0.254,1.524 7.366,1.524 7.366,-29.464 0.254,-29.464
Top Info:
  text "'.Comment'" at -0.381,-30.861 h1
3D body: height 2.03, standoff 0.25, extent 0.508,-29.21 7.112,1.27
3D body: height 3, standoff 2, extent 0.508,-29.21 7.112,1.27
3D body: height 2.09, standoff 0.31, extent -0.127,-5.58 0.508,-4.58
3D body: height 0.38, standoff -3, extent -0.127,-5.334 0.127,-4.826
3D body: height 2.09, standoff 0.31, extent -0.127,-8.12 0.508,-7.12
3D body: height 0.38, standoff -3, extent -0.127,-7.874 0.127,-7.366
3D body: height 2.09, standoff 0.31, extent 7.112,-8.12 7.747,-7.12
3D body: height 0.38, standoff -3, extent 7.493,-7.874 7.747,-7.366
3D body: height 2.09, standoff 0.31, extent 7.112,-5.58 7.747,-4.58
3D body: height 0.38, standoff -3, extent 7.493,-5.334 7.747,-4.826
3D body: height 2.09, standoff 0.31, extent -0.127,-0.5 0.508,0.5
3D body: height 0.38, standoff -3, extent -0.127,-0.254 0.127,0.254
3D body: height 2.09, standoff 0.31, extent -0.127,-3.04 0.508,-2.04
3D body: height 0.38, standoff -3, extent -0.127,-2.794 0.127,-2.286
3D body: height 2.09, standoff 0.31, extent 7.112,-3.04 7.747,-2.04
3D body: height 0.38, standoff -3, extent 7.493,-2.794 7.747,-2.286
3D body: height 2.09, standoff 0.31, extent 7.112,-0.5 7.747,0.5
3D body: height 0.38, standoff -3, extent 7.493,-0.254 7.747,0.254
3D body: height 2.09, standoff 0.31, extent -0.127,-15.74 0.508,-14.74
3D body: height 0.38, standoff -3, extent -0.127,-15.494 0.127,-14.986
3D body: height 2.09, standoff 0.31, extent -0.127,-18.28 0.508,-17.28
3D body: height 0.38, standoff -3, extent -0.127,-18.034 0.127,-17.526
3D body: height 2.09, standoff 0.31, extent 7.112,-18.28 7.747,-17.28
3D body: height 0.38, standoff -3, extent 7.493,-18.034 7.747,-17.526
3D body: height 2.09, standoff 0.31, extent 7.112,-15.74 7.747,-14.74
3D body: height 0.38, standoff -3, extent 7.493,-15.494 7.747,-14.986
3D body: height 2.09, standoff 0.31, extent -0.127,-10.66 0.508,-9.66
3D body: height 0.38, standoff -3, extent -0.127,-10.414 0.127,-9.906
3D body: height 2.09, standoff 0.31, extent -0.127,-13.2 0.508,-12.2
3D body: height 0.38, standoff -3, extent -0.127,-12.954 0.127,-12.446
3D body: height 2.09, standoff 0.31, extent 7.112,-13.2 7.747,-12.2
3D body: height 0.38, standoff -3, extent 7.493,-12.954 7.747,-12.446
3D body: height 2.09, standoff 0.31, extent 7.112,-10.66 7.747,-9.66
3D body: height 0.38, standoff -3, extent 7.493,-10.414 7.747,-9.906
3D body: height 2.09, standoff 0.31, extent -0.127,-25.9 0.508,-24.9
3D body: height 0.38, standoff -3, extent -0.127,-25.654 0.127,-25.146
3D body: height 2.09, standoff 0.31, extent -0.127,-28.44 0.508,-27.44
3D body: height 0.38, standoff -3, extent -0.127,-28.194 0.127,-27.686
3D body: height 2.09, standoff 0.31, extent 7.112,-28.44 7.747,-27.44
3D body: height 0.38, standoff -3, extent 7.493,-28.194 7.747,-27.686
3D body: height 2.09, standoff 0.31, extent 7.112,-25.9 7.747,-24.9
3D body: height 0.38, standoff -3, extent 7.493,-25.654 7.747,-25.146
3D body: height 2.09, standoff 0.31, extent -0.127,-20.82 0.508,-19.82
3D body: height 0.38, standoff -3, extent -0.127,-20.574 0.127,-20.066
3D body: height 2.09, standoff 0.31, extent -0.127,-23.36 0.508,-22.36
3D body: height 0.38, standoff -3, extent -0.127,-23.114 0.127,-22.606
3D body: height 2.09, standoff 0.31, extent 7.112,-23.36 7.747,-22.36
3D body: height 0.38, standoff -3, extent 7.493,-23.114 7.747,-22.606
3D body: height 2.09, standoff 0.31, extent 7.112,-20.82 7.747,-19.82
3D body: height 0.38, standoff -3, extent 7.493,-20.574 7.747,-20.066

## DIP26 [mm]
pads (26):
  rect 2.5x1.5 hole 0.8: 1(0,0)
  oval 2.5x1.5 hole 0.8: 2(0,-2.54) 3(0,-5.08) 4(0,-7.62) 5(0,-10.16) 6(0,-12.7) 7(0,-15.24) 8(0,-17.78) 9(0,-20.32) 10(0,-22.86) 11(0,-25.4) 12(0,-27.94) 13(0,-30.48) 14(7.62,-30.48) 15(7.62,-27.94) 16(7.62,-25.4) 17(7.62,-22.86) 18(7.62,-20.32) 19(7.62,-17.78) 20(7.62,-15.24) 21(7.62,-12.7) 22(7.62,-10.16) 23(7.62,-7.62) 24(7.62,-5.08) 25(7.62,-2.54) 26(7.62,0)
Top Overlay:
  lines w0.2: 3.048,1.27 1.524,1.27 1.524,-31.75 6.096,-31.75 6.096,1.27 4.572,1.27 ; 3.092,1.27 ccw(c3.81,1.27) 4.528,1.27
  text "DIP26" at 4.953,-19.685 h2
Top Draw:
  lines w0.2: 0.254,-30.734 1.524,-32.004 ; 0.254,-29.464 2.794,-32.004 ; 0.254,-28.194 1.524,-29.464 4.064,-32.004 ; 0.254,-26.924 2.794,-29.464 5.334,-32.004 ; 0.254,-25.654 1.524,-26.924 4.064,-29.464 6.604,-32.004 ; 0.254,-24.384 2.794,-26.924 5.334,-29.464 7.366,-31.496 ; 0.254,-23.114 1.524,-24.384 4.064,-26.924 6.604,-29.464 7.366,-30.226 ; 0.254,-21.844 2.794,-24.384 5.334,-26.924 7.366,-28.956 ; 0.254,-20.574 1.524,-21.844 4.064,-24.384 6.604,-26.924 7.366,-27.686 ; 0.254,-19.304 2.794,-21.844 5.334,-24.384 7.366,-26.416 ; 0.254,-18.034 1.524,-19.304 4.064,-21.844 6.604,-24.384 7.366,-25.146 ; 0.254,-16.764 2.794,-19.304 5.334,-21.844 7.366,-23.876 ; 0.254,-15.494 1.524,-16.764 4.064,-19.304 6.604,-21.844 7.366,-22.606 ; 0.254,-14.224 2.794,-16.764 5.334,-19.304 7.366,-21.336 ; 0.254,-12.954 1.524,-14.224 4.064,-16.764 6.604,-19.304 7.366,-20.066 ; 0.254,-11.684 2.794,-14.224 5.334,-16.764 7.366,-18.796 ; 0.254,-10.414 1.524,-11.684 ; 0.254,-9.144 2.794,-11.684 ; 0.254,-7.874 4.064,-11.684 6.604,-14.224 7.366,-14.986 ; 0.254,-6.604 5.334,-11.684 7.366,-13.716 ; 0.254,-5.334 6.604,-11.684 7.366,-12.446 ; 0.254,-4.064 7.366,-11.176 ; 0.254,-2.794 7.366,-9.906 ; 0.254,-1.524 7.366,-8.636 ; 0.254,-0.254 7.366,-7.366 ; 0.254,1.016 7.366,-6.096 ; 1.016,1.524 7.366,-4.826 ; 2.286,1.524 7.366,-3.556 ; 3.556,1.524 7.366,-2.286 ; 4.826,1.524 7.366,-1.016 ; 6.096,1.524 7.366,0.254 ; 7.366,-17.526 6.604,-16.764 4.064,-14.224 ; 7.366,-16.256 5.334,-14.224 ; 2.794,-11.684 5.334,-14.224 ; 2.794,-11.684 5.334,-14.224 ; 4.064,-14.224 1.27,-11.43 4.064,-14.224 ; 0.254,-32.004 0.254,1.524 7.366,1.524 7.366,1.27 7.366,-32.004 0.254,-32.004
Top Info:
  text "'.Comment'" at -0.381,-33.401 h1
3D body: height 0.38, standoff -3, extent 7.493,-30.734 7.747,-30.226
3D body: height 2.09, standoff 0.31, extent 7.112,-30.98 7.747,-29.98
3D body: height 0.38, standoff -3, extent -0.127,-30.734 0.127,-30.226
3D body: height 2.09, standoff 0.31, extent -0.127,-30.98 0.508,-29.98
3D body: height 0.38, standoff -3, extent 7.493,-20.574 7.747,-20.066
3D body: height 2.09, standoff 0.31, extent 7.112,-20.82 7.747,-19.82
3D body: height 0.38, standoff -3, extent 7.493,-23.114 7.747,-22.606
3D body: height 2.09, standoff 0.31, extent 7.112,-23.36 7.747,-22.36
3D body: height 0.38, standoff -3, extent -0.127,-23.114 0.127,-22.606
3D body: height 2.09, standoff 0.31, extent -0.127,-23.36 0.508,-22.36
3D body: height 0.38, standoff -3, extent -0.127,-20.574 0.127,-20.066
3D body: height 2.09, standoff 0.31, extent -0.127,-20.82 0.508,-19.82
3D body: height 0.38, standoff -3, extent 7.493,-25.654 7.747,-25.146
3D body: height 2.09, standoff 0.31, extent 7.112,-25.9 7.747,-24.9
3D body: height 0.38, standoff -3, extent 7.493,-28.194 7.747,-27.686
3D body: height 2.09, standoff 0.31, extent 7.112,-28.44 7.747,-27.44
3D body: height 0.38, standoff -3, extent -0.127,-28.194 0.127,-27.686
3D body: height 2.09, standoff 0.31, extent -0.127,-28.44 0.508,-27.44
3D body: height 0.38, standoff -3, extent -0.127,-25.654 0.127,-25.146
3D body: height 2.09, standoff 0.31, extent -0.127,-25.9 0.508,-24.9
3D body: height 0.38, standoff -3, extent 7.493,-10.414 7.747,-9.906
3D body: height 2.09, standoff 0.31, extent 7.112,-10.66 7.747,-9.66
3D body: height 0.38, standoff -3, extent 7.493,-12.954 7.747,-12.446
3D body: height 2.09, standoff 0.31, extent 7.112,-13.2 7.747,-12.2
3D body: height 0.38, standoff -3, extent -0.127,-12.954 0.127,-12.446
3D body: height 2.09, standoff 0.31, extent -0.127,-13.2 0.508,-12.2
3D body: height 0.38, standoff -3, extent -0.127,-10.414 0.127,-9.906
3D body: height 2.09, standoff 0.31, extent -0.127,-10.66 0.508,-9.66
3D body: height 0.38, standoff -3, extent 7.493,-15.494 7.747,-14.986
3D body: height 2.09, standoff 0.31, extent 7.112,-15.74 7.747,-14.74
3D body: height 0.38, standoff -3, extent 7.493,-18.034 7.747,-17.526
3D body: height 2.09, standoff 0.31, extent 7.112,-18.28 7.747,-17.28
3D body: height 0.38, standoff -3, extent -0.127,-18.034 0.127,-17.526
3D body: height 2.09, standoff 0.31, extent -0.127,-18.28 0.508,-17.28
3D body: height 0.38, standoff -3, extent -0.127,-15.494 0.127,-14.986
3D body: height 2.09, standoff 0.31, extent -0.127,-15.74 0.508,-14.74
3D body: height 0.38, standoff -3, extent 7.493,-0.254 7.747,0.254
3D body: height 2.09, standoff 0.31, extent 7.112,-0.5 7.747,0.5
3D body: height 0.38, standoff -3, extent 7.493,-2.794 7.747,-2.286
3D body: height 2.09, standoff 0.31, extent 7.112,-3.04 7.747,-2.04
3D body: height 0.38, standoff -3, extent -0.127,-2.794 0.127,-2.286
3D body: height 2.09, standoff 0.31, extent -0.127,-3.04 0.508,-2.04
3D body: height 0.38, standoff -3, extent -0.127,-0.254 0.127,0.254
3D body: height 2.09, standoff 0.31, extent -0.127,-0.5 0.508,0.5
3D body: height 0.38, standoff -3, extent 7.493,-5.334 7.747,-4.826
3D body: height 2.09, standoff 0.31, extent 7.112,-5.58 7.747,-4.58
3D body: height 0.38, standoff -3, extent 7.493,-7.874 7.747,-7.366
3D body: height 2.09, standoff 0.31, extent 7.112,-8.12 7.747,-7.12
3D body: height 0.38, standoff -3, extent -0.127,-7.874 0.127,-7.366
3D body: height 2.09, standoff 0.31, extent -0.127,-8.12 0.508,-7.12
3D body: height 0.38, standoff -3, extent -0.127,-5.334 0.127,-4.826
3D body: height 2.09, standoff 0.31, extent -0.127,-5.58 0.508,-4.58
3D body: height 2.03, standoff 0.25, extent 0.508,-31.75 7.112,1.27
3D body: height 3, standoff 2, extent 0.508,-31.75 7.112,1.27